# Altium footprint library Connectors Rectangular 2.54 WF.PcbLib: 4 footprints
Each footprint in its own frame and in the unit in brackets; x right, y up, seen from the top. Pads: shape width x height; smd on the part's side, far side on the other; paste and mask are expansions set on the pad; w line width, h text height; cw(c..) or ccw(c..) is an arc to the next point about the centre after c.
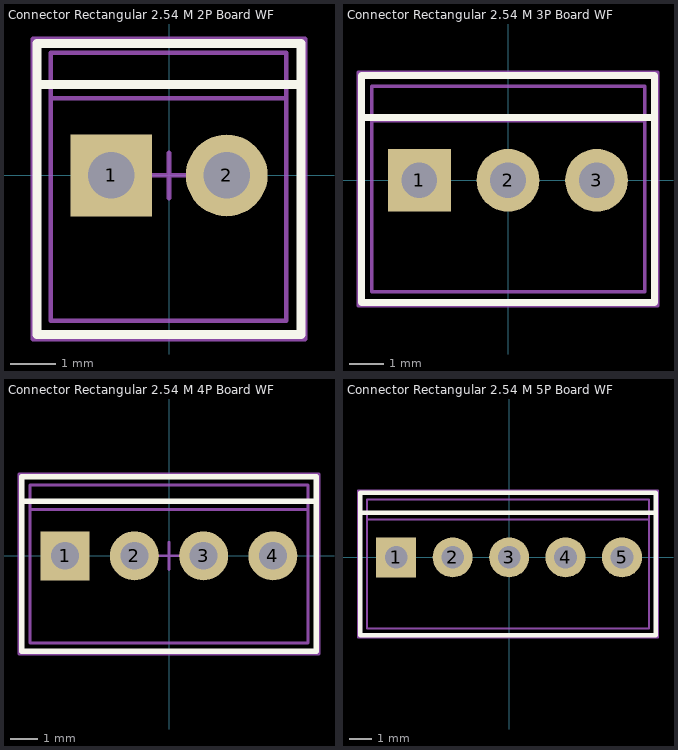
[diagram p0: the footprints below, top view; thin cyan lines are the x and y axes]

## Connector Rectangular 2.54 M 2P Board WF [mm]
height 11.4
pads (2):
  rect 1.8x1.8 hole 1.02: 1(-1.27,0)
  round 1.8 hole 1.02: 2(1.27,0)
Top Overlay:
  lines w0.2: -2.9,2 2.9,2 ; -2.9,-3.5 -2.9,2.9 2.9,2.9 2.9,-3.5 -2.9,-3.5
Top Package:
  circle w0.1: c1.27,0 r0.4
  circle w0.1: c-1.27,0 r0.4
  lines w0.1: -2.6,1.7 2.575,1.7 ; -2.6,-3.2 -2.6,2.7 2.575,2.7 2.575,-3.2 -2.6,-3.2
Top Comment:
  text ".Comment" at -2.835,-2.651 h2
Top Designator:
  text ".Designator" at -4.299,-2.583 h2.5
Top Border:
  lines w0.1: -0.5,0 0.5,0 ; 0,-0.5 0,0.5 ; -3,-3.6 3,-3.6 3,3 -3,3 -3,-3.6
3D body "61900211121.stp": height 11.55, standoff -3.35, extent -2.54,-2.9 2.54,2.9

## Connector Rectangular 2.54 M 3P Board WF [mm]
height 11.4
pads (3):
  rect 1.8x1.8 hole 1.02: 1(-2.54,0)
  round 1.8 hole 1.02: 2(0,0) 3(2.54,0)
Top Overlay:
  lines w0.2: -4.2,1.8 4.2,1.8 ; -4.2,-3.5 -4.2,3 4.2,3 4.2,-3.5 -4.2,-3.5
Top Package:
  circle w0.1: c0,0 r0.4
  circle w0.1: c-2.54,0 r0.4
  circle w0.1: c2.54,0 r0.4
  lines w0.1: -3.9,1.7 3.925,1.7 ; -3.9,-3.2 -3.9,2.7 3.925,2.7 3.925,-3.2 -3.9,-3.2
Top Comment:
  text ".Comment" at -2.835,-2.651 h2
Top Designator:
  text ".Designator" at -4.299,-2.583 h2.5
Top Border:
  lines w0.1: -0.5,0 0.5,0 ; 0,-0.5 0,0.5 ; -4.3,-3.6 4.3,-3.6 4.3,3.1 -4.3,3.1 -4.3,-3.6
3D body "61900311121.stp": height 11.55, standoff -3.35, extent -3.81,-2.9 3.81,2.9

## Connector Rectangular 2.54 M 4P Board WF [mm]
height 11.4
pads (4):
  rect 1.8x1.8 hole 1.02: 1(-3.81,0)
  round 1.8 hole 1.02: 2(-1.27,0) 3(1.27,0) 4(3.81,0)
Top Overlay:
  lines w0.2: -5.4,2 5.4,2 ; -5.4,-3.5 -5.4,2.9 5.4,2.9 5.4,-3.5 -5.4,-3.5
Top Package:
  circle w0.1: c1.27,0 r0.4
  circle w0.1: c-1.27,0 r0.4
  circle w0.1: c3.81,0 r0.4
  circle w0.1: c-3.81,0 r0.4
  lines w0.1: -5.1,1.7 5.1,1.7 ; -5.1,-3.2 -5.1,2.6 5.1,2.6 5.1,-3.2 -5.1,-3.2
Top Comment:
  text ".Comment" at -3.546,-2.814 h2.5
Top Designator:
  text ".Designator" at -4.299,-2.583 h2.5
Top Border:
  lines w0.1: -0.5,0 0.5,0 ; 0,-0.5 0,0.5 ; -5.5,-3.6 5.5,-3.6 5.5,3 -5.5,3 -5.5,-3.6
3D body "61900411121.stp": height 11.55, standoff -3.35, extent -5.08,-3 5.08,2.8

## Connector Rectangular 2.54 M 5P Board WF [mm]
height 11.4
pads (5):
  rect 1.8x1.8 hole 1.02: 1(-5.08,0)
  round 1.8 hole 1.02: 2(-2.54,0) 3(0,0) 4(2.54,0) 5(5.08,0)
Top Overlay:
  lines w0.2: -6.7,2 6.6,2 ; -6.7,-3.5 6.6,-3.5 6.6,2.9 -6.7,2.9 -6.7,-3.5
Top Package:
  circle w0.1: c-5.08,0 r0.4
  circle w0.1: c2.54,0 r0.4
  circle w0.1: c5.08,0 r0.4
  circle w0.1: c-2.54,0 r0.4
  circle w0.1: c0,0 r0.4
  lines w0.1: -6.4,1.7 6.3,1.7 ; -6.4,-3.2 6.3,-3.2 6.3,2.6 -6.4,2.6 -6.4,-3.2
Top Comment:
  text ".Comment" at -3.546,-2.814 h2.5
Top Designator:
  text ".Designator" at -4.299,-2.583 h2.5
Top Border:
  lines w0.1: -0.5,0 0.5,0 ; 0,-0.5 0,0.5 ; -6.8,-3.6 -6.8,3 6.7,3 6.7,-3.6 -6.8,-3.6
3D body "61900511121.stp": height 11.55, standoff -3.35, extent -6.35,-3.2 6.35,2.6